# EAGLE library part MOLEX-502598-2593 (library GTEEL_gwu_mpnl_ucat_v10)
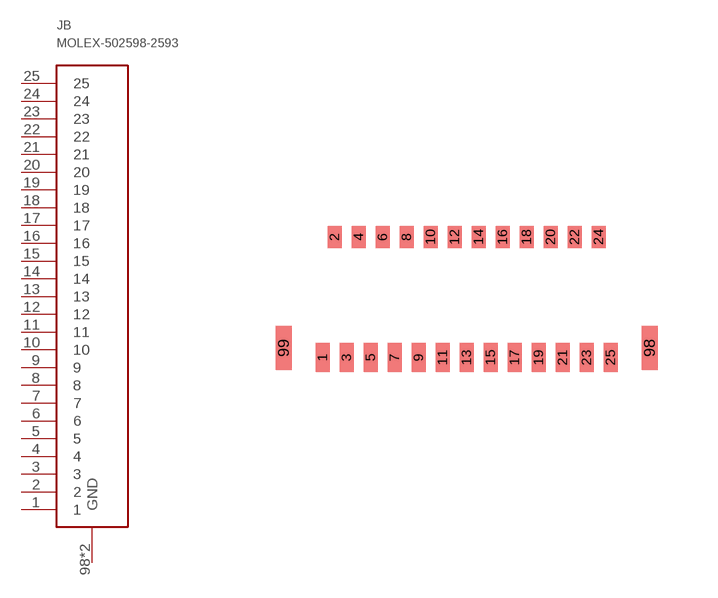
[diagram p19: symbol with the pads of MOLEX-502598-2593; footprint MOLEX-502598-2593]

Designator prefix JB

## MOLEX-502598-2593  [MOLEX-502598-2593]
1  1
2  2
3  3
4  4
5  5
6  6
7  7
8  8
9  9
10  10
11  11
12  12
13  13
14  14
15  15
16  16
17  17
18  18
19  19
20  20
21  21
22  22
23  23
24  24
25  25
98  GND
99  GND

## Footprint MOLEX-502598-2593 (pad centres in mm)
0.3 FPC CONN. BACK FLIP HOUSING ASSY. 25 POS. 50V/0.2A/ckt, -40C/85C, Use w/15015 Premo-Flex Etched Polyimide Jumper
smd 0.35 x 0.72: 1 -3.6,-1.465; 3 -3,-1.465; 5 -2.4,-1.465; 7 -1.8,-1.465; 9 -1.2,-1.465; 11 -0.6,-1.465; 13 0,-1.465; 15 0.6,-1.465; 17 1.2,-1.465; 19 1.8,-1.465; 21 2.4,-1.465; 23 3,-1.465; 25 3.6,-1.465
smd 0.35 x 0.55: 2 -3.3,1.55; 4 -2.7,1.55; 6 -2.1,1.55; 8 -1.5,1.55; 10 -0.9,1.55; 12 -0.3,1.55; 14 0.3,1.55; 16 0.9,1.55; 18 1.5,1.55; 20 2.1,1.55; 22 2.7,1.55; 24 3.3,1.55
smd 0.4 x 1.1: 98 4.575,-1.225; 99 -4.575,-1.225